# EAGLE library part PINHD-1X6 (library Tilmann)
PIN HEADER
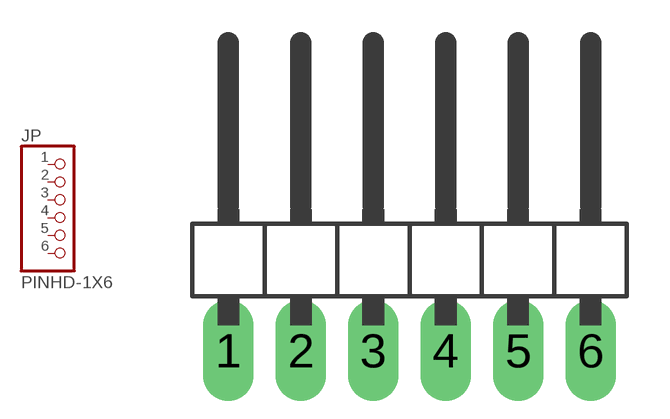
[diagram p13: symbol with the pads of 1X06/90; footprint 1X06/90]

Designator prefix JP

## PINHD-1X6/90  [1X06/90]
1  1  pas
2  2  pas
3  3  pas
4  4  pas
5  5  pas
6  6  pas

## Footprint 1X06/90 (pad centres in mm)
PIN HEADER
drill 1.016 pad 1.778 long: 1 -6.35,-3.81; 2 -3.81,-3.81; 3 -1.27,-3.81; 4 1.27,-3.81; 5 3.81,-3.81; 6 6.35,-3.81